# Altium integrated library SMTV01-R15G15B09.IntLib: 1 symbol
Pins are listed as number, name and electrical type; pins without a type are passive.

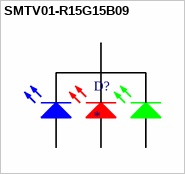
[diagram p0: symbol SMTV01-R15G15B09]

## SMTV01-R15G15B09
designator D?
LIGHT PIPE ADAPTER RED/GRN/BLU / Manufacturer PN: SMTV01-R15G15B09
footprint SMTV01-R15G15B09
pins: 1 Cathode, 2 B_A, 3 R_A, 4 G_A